# EAGLE library part IFX9201SG (library infineon)
The TLE9201SG is a general purpose 6 A H-Bridge, designed for (but not limited to) the control of DC motors or other inductive loads in automotive applications. The outputs can be pulse width modulated at frequencies up to 20kHz. PWM/DIR control reduces the number of PWM capable pins needed on the microcontroler side.
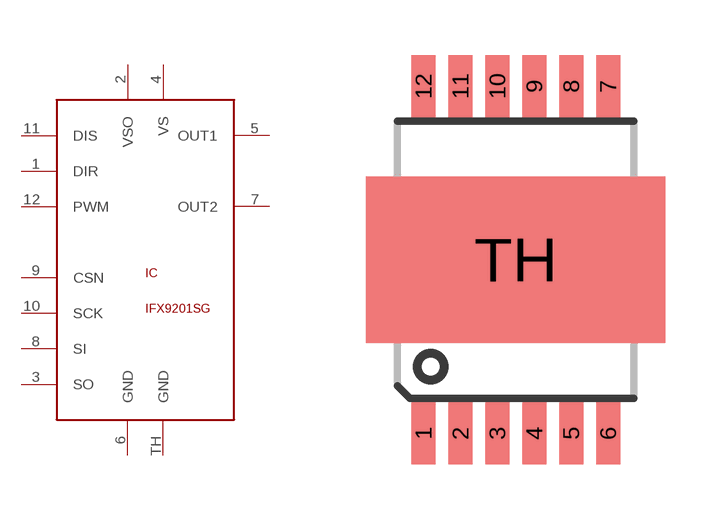
[diagram p6: symbol with the pads of PG-DSO-12-17; footprint PG-DSO-12-17]

Designator prefix IC

## IFX9201SG  [PG-DSO-12-17]
1  DIR  in
2  VSO  in
3  SO  out
4  VS  pwr
5  OUT1  out
6  GND  pwr
7  OUT2  out
8  SI  in
9  CSN  in
10  SCK  in
11  DIS  in
12  PWM  in
TH  GND  pwr

## Footprint PG-DSO-12-17 (pad centres in mm)
smd 0.65 x 1.67: 1 -2.5,-4.7; 2 -1.5,-4.7; 3 -0.5,-4.7; 4 0.5,-4.7; 5 1.5,-4.7; 6 2.5,-4.7; 7 2.5,4.7; 8 1.5,4.7; 9 0.5,4.7; 10 -0.5,4.7; 11 -1.5,4.7; 12 -2.5,4.7
smd 8.1 x 4.5: TH 0,0